# EAGLE library part 79107-06_S (library untitled)
RECEPTACAL
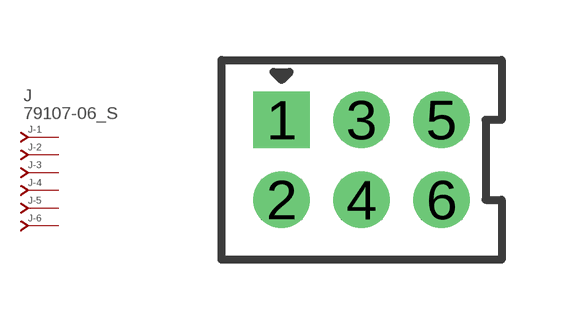
[diagram p258: symbol with the pads of 79107-06; footprint 79107-06]

Designator prefix J; gates -1=J-NV -2=J-N -3=J-N -4=J-N -5=J-N -6=J-N

## 79107-06_S  [79107-06]
1  -1:J  pas
2  -2:J  pas
3  -3:J  pas
4  -4:J  pas
5  -5:J  pas
6  -6:J  pas

## Footprint 79107-06 (pad centres in mm)
RECEPTACAL Dual Row, Vertical, Through-Hole
drill 0.914 square: 1 -2,1
drill 0.914 round: 2 -2,-1; 3 0,1; 4 0,-1; 5 2,1; 6 2,-1